# Altium schematic symbol library LM4992 Stereo 1W Audio Amplifier.SchLib: 1 symbol
Pins are listed as number, name and electrical type; pins without a type are passive.

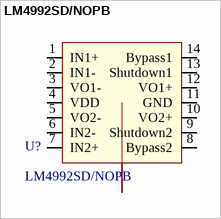
[diagram p0: symbol LM4992SD/NOPB]

## LM4992SD/NOPB
designator U?
Amplifier IC 2-Channel (Stereo) Class AB 14-WSON (4x3); Manufacturer: TI; Manufacturer Prt. #: LM4992SD/NOPB; Digikey Prt. #: LM4992SD/NOPBCT-ND
footprint SON50P300X80_HS-15N (SON, 14-Leads, Body 4.00x3.00mm, Pitch 0.50mm, Thermal Pad 3.00x1.49mm, IPC Medium Density)
pins: 1 IN1+, 2 IN1-, 3 VO1-, 4 VDD, 5 VO2-, 6 IN2-, 7 IN2+, 8 Bypass2, 9 Shutdown2, 10 VO2+, 11 GND, 12 VO1+, 13 Shutdown1, 14 Bypass1